# Altium schematic symbol library 47346-0001.SchLib: 1 symbol
Pins are listed as number, name and electrical type; pins without a type are passive.

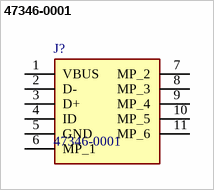
[diagram p0: symbol 47346-0001]

## 47346-0001
designator J?
Micro USB B Receptacle Bottom Mount Assy Molex Right Angle SMT Type B Version 2.0 Micro USB Connector Socket, 30 V ac, 1A 47352 MICRO-USB; Geometry.Height: 3.19mm; Farnell Part Number: *; Farnell Price/Stock: *; Manufacturer_Name: Molex; Manufacturer_Part_Number: 47346-0001; Datasheet Link: http://www.molex.com/pdm_docs/sd/473460001_sd.pdf
footprint 473460001
pins: 1 VBUS, 2 D-, 3 D+, 4 ID, 5 GND, 6 MP_1, 7 MP_2, 8 MP_3, 9 MP_4, 10 MP_5, 11 MP_6